# EAGLE library part HDR2X7 (library Underwater-Camera-v2.0)
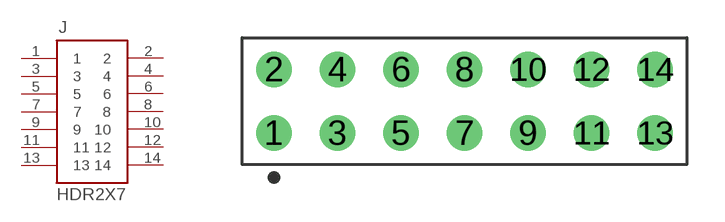
[diagram p2: symbol with the pads of HDR2X7; footprint HDR2X7]

Designator prefix J

## HDR2X7HDR2X7  [HDR2X7]
1  1
2  2
3  3
4  4
5  5
6  6
7  7
8  8
9  9
10  10
11  11
12  12
13  13
14  14

## Footprint HDR2X7 (pad centres in mm)
Double-row, 14-pin Pin Header (Male) Straight, 2.54 mm (0.10 in) row pitch, 2.54 mm (0.10 in) col pitch, 5.84 mm mating length, 17.78 X 5.08 X 8.38 mm body Double-row (2X7), 14-pin Pin Header (Male) Straight package with 2.54 mm (0.10 in) row pitch, 2.54 mm (0.10 in) col pitch, 0.64 mm lead width, 3.00 mm tail length and 5.84 mm mating length with overall size 17.78 X 5.08 X 8.38 mm, pin pattern - zigzag from bottom left
drill 0.8 pad 1.422: 1 0,0; 2 0,2.54; 3 2.54,0; 4 2.54,2.54; 5 5.08,0; 6 5.08,2.54; 7 7.62,0; 8 7.62,2.54; 9 10.16,0; 10 10.16,2.54; 11 12.7,0; 12 12.7,2.54; 13 15.24,0; 14 15.24,2.54